# EAGLE library part NRF52833_QIAA (library nrf52833_qiaa)
Multi-protocol Bluetooth Low Energy, IEEE 802.15.4, ANT and 2.4GHz proprietary system-on-chip
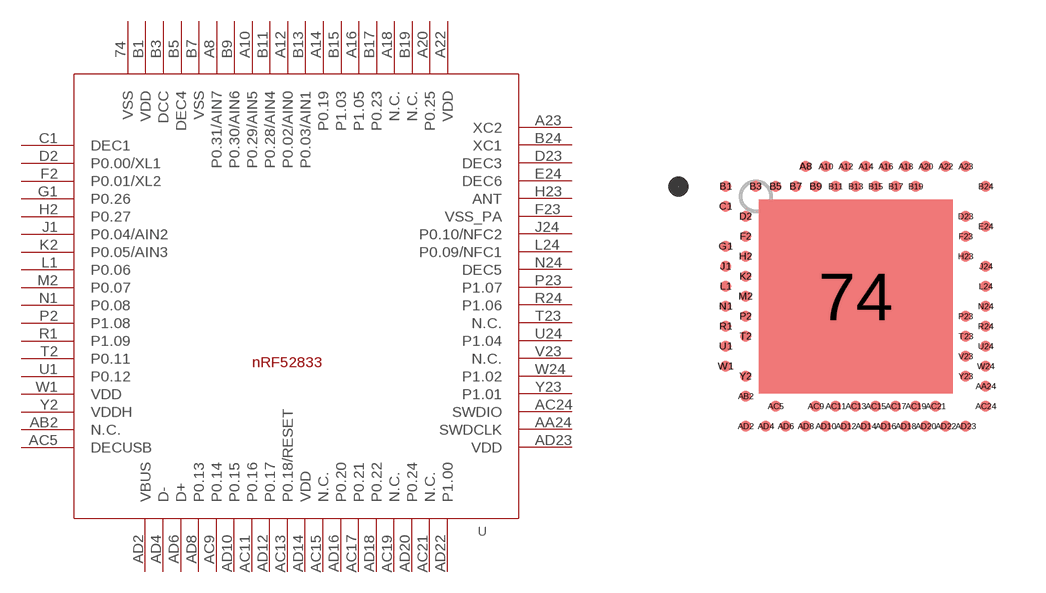
[diagram p0: symbol with the pads of AQFN50P700X700X85_HS-74N; footprint AQFN50P700X700X85_HS-74N]

Designator prefix U

## NRF52833_QIAANRF52833_QIAA_AQFN50P700X700X85_HS-74N (FOOTPRINT_DOC: AQFN-73; LATESTREVISIONDATE: 2018-12-03; MANUFACTURER: Nordic Semiconductor; MANUFACTURER_PART_NUMBER: nRF52833-QIAA; NOTE: *; PART_NUMBER: nRF52833-QIAA; PIN_COUNT: 73; PUBLISHED: 2018-12-03; PUBLISHER: Nordic Semiconductor; VALUE: nRF52833-QIAA)  [AQFN50P700X700X85_HS-74N]
74  VSS  pwr
A8  P0.31/AIN7
A10  P0.29/AIN5
A12  P0.02/AIN0
A14  P0.19
A16  P1.05
A18  N.C.  pas
A20  P0.25
A22  VDD  pwr
A23  XC2  out
AA24  SWDCLK  in
AB2  N.C.  pas
AC5  DECUSB  pwr
AC9  P0.14
AC11  P0.16
AC13  P0.18/RESET
AC15  N.C.  pas
AC17  P0.21
AC19  N.C.  pas
AC21  N.C.  pas
AC24  SWDIO
AD2  VBUS  pwr
AD4  D-
AD6  D+
AD8  P0.13
AD10  P0.15
AD12  P0.17
AD14  VDD  pwr
AD16  P0.20
AD18  P0.22
AD20  P0.24
AD22  P1.00
AD23  VDD  pwr
B1  VDD  pwr
B3  DCC  out
B5  DEC4  pwr
B7  VSS  pwr
B9  P0.30/AIN6
B11  P0.28/AIN4
B13  P0.03/AIN1
B15  P1.03
B17  P0.23
B19  N.C.  pas
B24  XC1  in
C1  DEC1  pwr
D2  P0.00/XL1
D23  DEC3  pwr
E24  DEC6  pwr
F2  P0.01/XL2
F23  VSS_PA  pwr
G1  P0.26
H2  P0.27
H23  ANT
J1  P0.04/AIN2
J24  P0.10/NFC2
K2  P0.05/AIN3
L1  P0.06
L24  P0.09/NFC1
M2  P0.07
N1  P0.08
N24  DEC5  pwr
P2  P1.08
P23  P1.07
R1  P1.09
R24  P1.06
T2  P0.11
T23  N.C.  pas
U1  P0.12
U24  P1.04
V23  N.C.  pas
W1  VDD  pwr
W24  P1.02
Y2  VDDH  pwr
Y23  P1.01

## Footprint AQFN50P700X700X85_HS-74N (pad centres in mm)
smd 4.85 x 4.85: 74 0,0
smd 0.275 x 0.275: A8 -1.25,3.25; A10 -0.75,3.25; A12 -0.25,3.25; A14 0.25,3.25; A16 0.75,3.25; A18 1.25,3.25; A20 1.75,3.25; A22 2.25,3.25; A23 2.75,3.25; AA24 3.25,-2.25; AB2 -2.75,-2.5; AC5 -2,-2.75; AC9 -1,-2.75; AC11 -0.5,-2.75; AC13 0,-2.75; AC15 0.5,-2.75; AC17 1,-2.75; AC19 1.5,-2.75; AC21 2,-2.75; AC24 3.25,-2.75; AD2 -2.75,-3.25; AD4 -2.25,-3.25; AD6 -1.75,-3.25; AD8 -1.25,-3.25; AD10 -0.75,-3.25; AD12 -0.25,-3.25; AD14 0.25,-3.25; AD16 0.75,-3.25; AD18 1.25,-3.25; AD20 1.75,-3.25; AD22 2.25,-3.25; AD23 2.75,-3.25; B1 -3.25,2.75; B3 -2.5,2.75; B5 -2,2.75; B7 -1.5,2.75; B9 -1,2.75; B11 -0.5,2.75; B13 0,2.75; B15 0.5,2.75; B17 1,2.75; B19 1.5,2.75; B24 3.25,2.75; C1 -3.25,2.25; D2 -2.75,2; D23 2.75,2; E24 3.25,1.75; F2 -2.75,1.5; F23 2.75,1.5; G1 -3.25,1.25; H2 -2.75,1; H23 2.75,1; J1 -3.25,0.75; J24 3.25,0.75; K2 -2.75,0.5; L1 -3.25,0.25; L24 3.25,0.25; M2 -2.75,0; N1 -3.25,-0.25; N24 3.25,-0.25; P2 -2.75,-0.5; P23 2.75,-0.5; R1 -3.25,-0.75; R24 3.25,-0.75; T2 -2.75,-1; T23 2.75,-1; U1 -3.25,-1.25; U24 3.25,-1.25; V23 2.75,-1.5; W1 -3.25,-1.75; W24 3.25,-1.75; Y2 -2.75,-2; Y23 2.75,-2